# EAGLE library part TSW-D-84 (library con-samtec-tsw)
HEADER
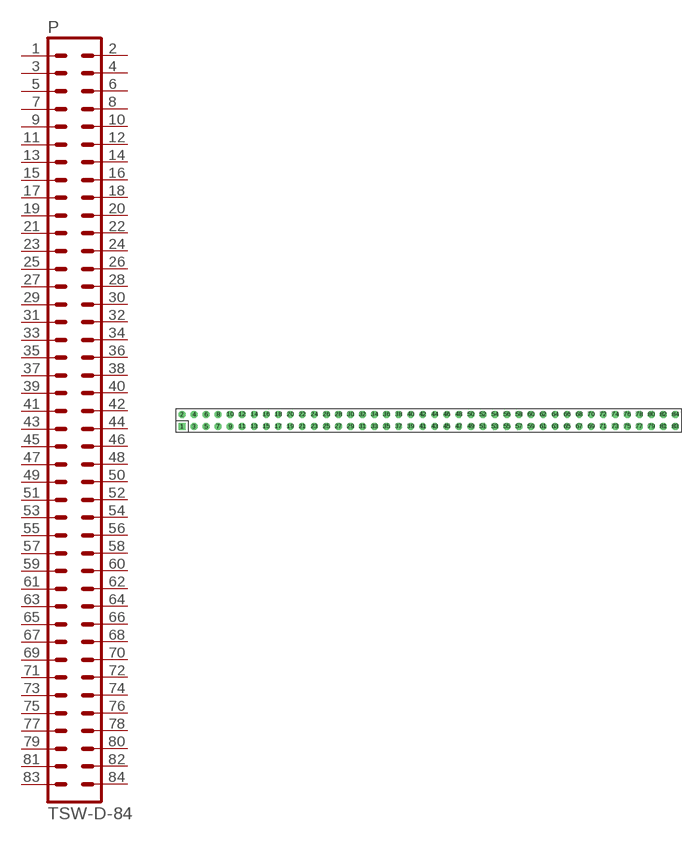
[diagram p129: symbol with the pads of TSW-D-84; footprint TSW-D-84]

Designator prefix P

## TSW-D-84  [TSW-D-84]
1  1  pas
2  2  pas
3  3  pas
4  4  pas
5  5  pas
6  6  pas
7  7  pas
8  8  pas
9  9  pas
10  10  pas
11  11  pas
12  12  pas
13  13  pas
14  14  pas
15  15  pas
16  16  pas
17  17  pas
18  18  pas
19  19  pas
20  20  pas
21  21  pas
22  22  pas
23  23  pas
24  24  pas
25  25  pas
26  26  pas
27  27  pas
28  28  pas
29  29  pas
30  30  pas
31  31  pas
32  32  pas
33  33  pas
34  34  pas
35  35  pas
36  36  pas
37  37  pas
38  38  pas
39  39  pas
40  40  pas
41  41  pas
42  42  pas
43  43  pas
44  44  pas
45  45  pas
46  46  pas
47  47  pas
48  48  pas
49  49  pas
50  50  pas
51  51  pas
52  52  pas
53  53  pas
54  54  pas
55  55  pas
56  56  pas
57  57  pas
58  58  pas
59  59  pas
60  60  pas
61  61  pas
62  62  pas
63  63  pas
64  64  pas
65  65  pas
66  66  pas
67  67  pas
68  68  pas
69  69  pas
70  70  pas
71  71  pas
72  72  pas
73  73  pas
74  74  pas
75  75  pas
76  76  pas
77  77  pas
78  78  pas
79  79  pas
80  80  pas
81  81  pas
82  82  pas
83  83  pas
84  84  pas

## Footprint TSW-D-84 (pad centres in mm)
HEADER
drill 0.914 square: 1 -52.07,-1.27
drill 0.914 octagon: 2 -52.07,1.27; 3 -49.53,-1.27; 4 -49.53,1.27; 5 -46.99,-1.27; 6 -46.99,1.27; 7 -44.45,-1.27; 8 -44.45,1.27; 9 -41.91,-1.27; 10 -41.91,1.27; 11 -39.37,-1.27; 12 -39.37,1.27; 13 -36.83,-1.27; 14 -36.83,1.27; 15 -34.29,-1.27; 16 -34.29,1.27; 17 -31.75,-1.27; 18 -31.75,1.27; 19 -29.21,-1.27; 20 -29.21,1.27; 21 -26.67,-1.27; 22 -26.67,1.27; 23 -24.13,-1.27; 24 -24.13,1.27; 25 -21.59,-1.27; 26 -21.59,1.27; 27 -19.05,-1.27; 28 -19.05,1.27; 29 -16.51,-1.27; 30 -16.51,1.27; 31 -13.97,-1.27; 32 -13.97,1.27; 33 -11.43,-1.27; 34 -11.43,1.27; 35 -8.89,-1.27; 36 -8.89,1.27; 37 -6.35,-1.27; 38 -6.35,1.27; 39 -3.81,-1.27; 40 -3.81,1.27; 41 -1.27,-1.27; 42 -1.27,1.27; 43 1.27,-1.27; 44 1.27,1.27; 45 3.81,-1.27; 46 3.81,1.27; 47 6.35,-1.27; 48 6.35,1.27; 49 8.89,-1.27; 50 8.89,1.27; 51 11.43,-1.27; 52 11.43,1.27; 53 13.97,-1.27; 54 13.97,1.27; 55 16.51,-1.27; 56 16.51,1.27; 57 19.05,-1.27; 58 19.05,1.27; 59 21.59,-1.27; 60 21.59,1.27; 61 24.13,-1.27; 62 24.13,1.27; 63 26.67,-1.27; 64 26.67,1.27; 65 29.21,-1.27; 66 29.21,1.27; 67 31.75,-1.27; 68 31.75,1.27; 69 34.29,-1.27; 70 34.29,1.27; 71 36.83,-1.27; 72 36.83,1.27; 73 39.37,-1.27; 74 39.37,1.27; 75 41.91,-1.27; 76 41.91,1.27; 77 44.45,-1.27; 78 44.45,1.27; 79 46.99,-1.27; 80 46.99,1.27; 81 49.53,-1.27; 82 49.53,1.27; 83 52.07,-1.27; 84 52.07,1.27